# EAGLE library part TPS6216X (library hsk_2012)
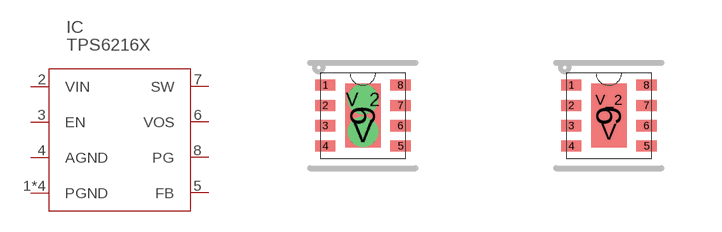
[diagram p47: symbol with the pads of DSG-8; footprints DSG-8, DSG-8_NOTHERM]

Designator prefix IC

## TPS6216X_1  [DSG-8]
1  PGND  pas
2  VIN  pas
3  EN  pas
4  AGND  pas
5  FB  pas
6  VOS  pas
7  SW  pas
8  PG  pas
9  PGND  pas
V  PGND  pas
V_2  PGND  pas

## TPS6216X_2  [DSG-8_NOTHERM]
Pads as for DSG-8

## Footprint DSG-8 (pad centres in mm)
smd 0.508 x 0.279: 1 -0.94,0.762; 2 -0.94,0.254; 3 -0.94,-0.254; 4 -0.94,-0.762; 5 0.94,-0.762; 6 0.94,-0.254; 7 0.94,0.254; 8 0.94,0.762
smd 0.889 x 1.6: 9 0,0
drill 0.254: V 0,-0.406; V_2 0,0.406

## Footprint DSG-8_NOTHERM (pad centres in mm)
smd 0.508 x 0.279: 1 -0.94,0.762; 2 -0.94,0.254; 3 -0.94,-0.254; 4 -0.94,-0.762; 5 0.94,-0.762; 6 0.94,-0.254; 7 0.94,0.254; 8 0.94,0.762
smd 0.889 x 1.6: 9 0,0
smd 0.6 x 0.6: V 0,-0.4; V_2 0,0.4